# Altium schematic symbol library library.SchLib: 20 symbols
Pins are listed as number, name and electrical type; pins without a type are passive.

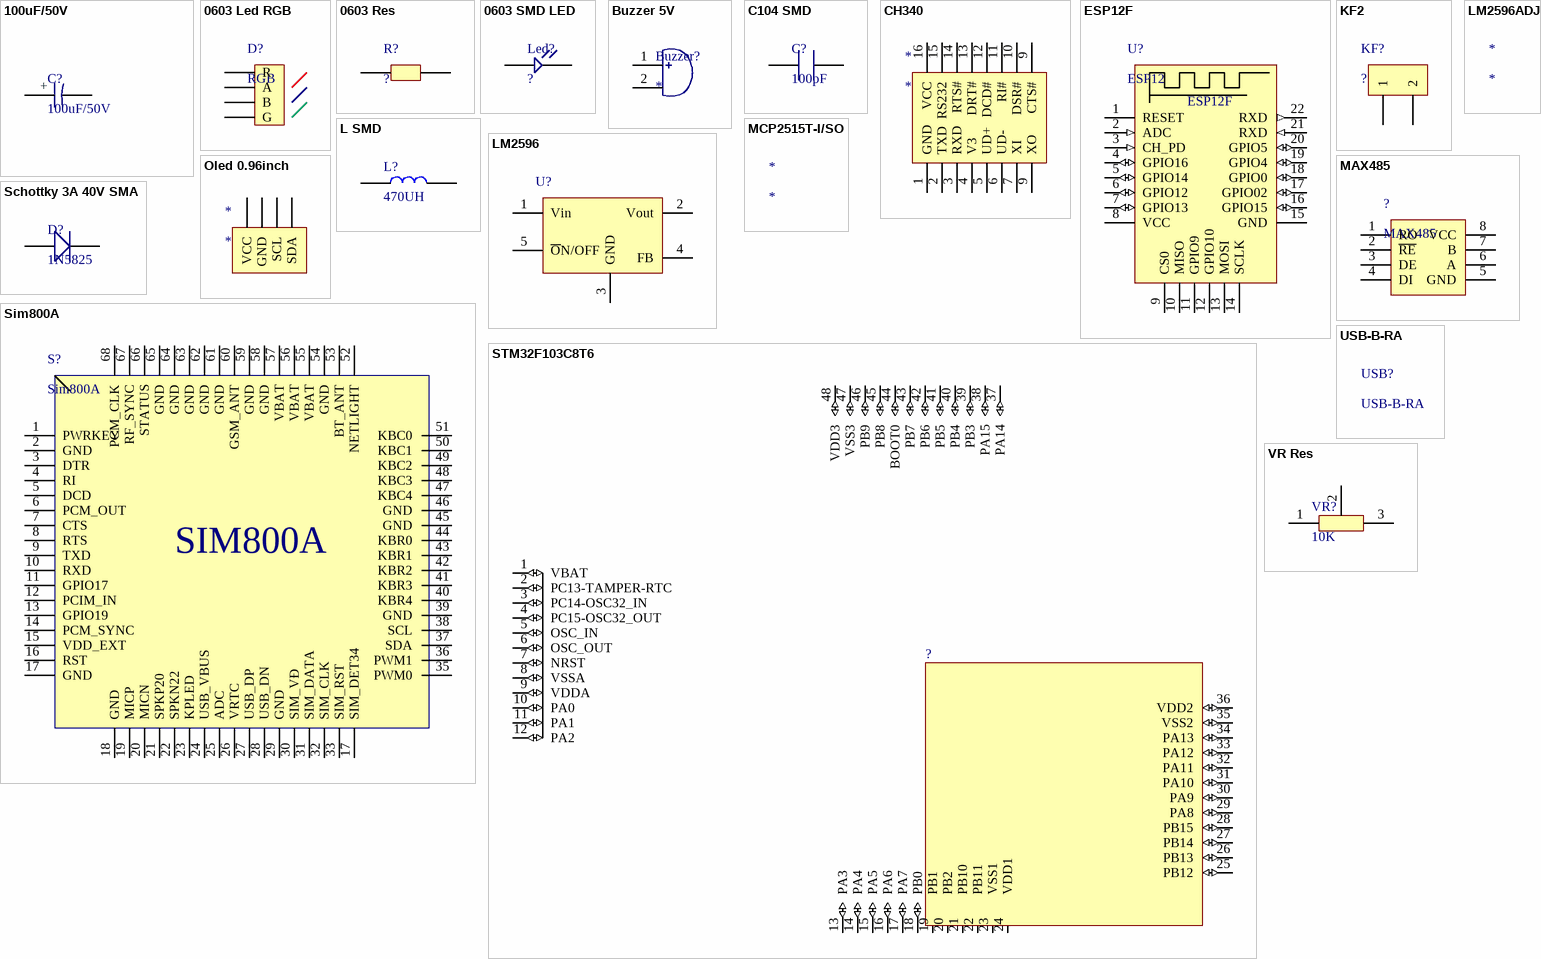
[diagram p0: symbols 100uF/50V to VR Res]

## 100uF/50V
designator C?
CAP ALUM 100UF 50V SMD; Supplier 1: Digi-Key; Supplier Part Number 1: 493-2306-1-ND
footprint UUD1H101MNL1GS
pins: 1 +, 2

## 0603 Led RGB
designator D?, comment RGB
footprint 0603 led RGB
pins: 1 R, 2 A, 3 B, 4 G

## 0603 Res
designator R?, comment ?
footprint SMD 0603 Res
pins: 1, 2

## 0603 SMD LED
designator Led?, comment ?
footprint 0603 SMD
pins: 1, 2

## Buzzer 5V
designator Buzzer?
footprint YMD-12095G
pins: 1, 2

## C104 SMD
designator C?, comment 100pF
0603 SMD CAP
footprint C104 0603 SMD
footprint C104 0603 SMD
pins: 1, 2

## CH340
designator *
Supplier 1: Digi-Key
pins: 1 GND, 2 TXD, 3 RXD, 4 V3, 5 UD+, 6 UD-, 7 XI, 9 XO, 9 CTS#, 10 DSR#, 11 RI#, 12 DCD#, 13 DRT#, 14 RTS#, 15 RS232, 16 VCC

## ESP12F
designator U?, comment ESP12
ESP12F: ESP12F
footprint Esp12
pins: 1 RESET, 2 ADC (in), 3 CH_PD (in), 4 GPIO16 (io), 5 GPIO14 (io), 6 GPIO12 (io), 7 GPIO13 (io), 8 VCC, 9 CS0, 10 MISO, 11 GPIO9, 12 GPIO10, 13 MOSI, 14 SCLK, 15 GND, 16 GPIO15 (io), 17 GPIO02 (io), 18 GPIO0 (io), 19 GPIO4 (io), 20 GPIO5 (io), 21 RXD (in), 22 RXD (out)

## KF2
designator KF?, comment ?
2P-KF126 Domino
footprint KF126
pins: 1, 2

## L SMD
designator L?, comment 470UH
470UH 0.79A, Size 12 x 12 x 8, SMD Inductor; Supplier 1: Digi-Key; Supplier Part Number 1: 595-1460-1-ND
footprint RH127-471
footprint RH127-471
footprint RH127-471
pins: 1, 2

## LM2596
designator U?, comment LM2596-ADJ  (value not drawn)
IC BUCK ADJ 3A TO263-5; Supplier 1: Digi-Key; Supplier Part Number 1: LM2596S-ADJ/NOPB-ND
footprint TO263-5
pins: 1 Vin, 2 Vout, 3 GND, 4 FB, 5 ~{O}N/OFF

## LM2596ADJ
designator *

## MAX485
designator ?
footprint MAX485
pins: 1 RO, 2 ~{RE}, 3 DE, 4 DI, 5 GND, 6 A, 7 B, 8 VCC

## MCP2515T-I/SO
designator *

## Oled 0.96inch
designator *
footprint Oled 0.96
pins: 1 VCC, 2 GND, 3 SCL, 4 SDA

## Schottky 3A 40V SMA
designator D?, comment 1N5825
DIODE SCHOTTKY 3A 40V SMA; Supplier 1: Digi-Key; Supplier Part Number 1: B340LA-FDICT-ND
footprint SS34-SMA
footprint SS34-SMA
pins: 1, 2

## Sim800A
designator S?
footprint SIM800a
pins: 1 PWRKEY, 2 GND, 3 DTR, 4 RI, 5 DCD, 6 PCM_OUT, 7 CTS, 8 RTS, 9 TXD, 10 RXD, 11 GPIO17, 12 PCIM_IN, 13 GPIO19, 14 PCM_SYNC, 15 VDD_EXT, 16 RST, 17 GND, 17 SIM_DET34, 18 GND, 19 MICP, 20 MICN, 21 SPKP20, 22 SPKN22, 23 KPLED, 24 USB_VBUS, 25 ADC, 26 VRTC, 27 USB_DP, 28 USB_DN, 29 GND, 30 SIM_VĐ, 31 SIM_DATA, 32 SIM_CLK, 33 SIM_RST, 35 PWM0, 36 PWM1, 37 SDA, 38 SCL, 39 GND, 40 KBR4, 41 KBR3, 42 KBR2, 43 KBR1, 44 KBR0, 45 GND, 46 GND, 47 KBC4, 48 KBC3, 49 KBC2, 50 KBC1, 51 KBC0, 52 NETLIGHT, 53 BT_ANT, 54 GND, 55 VBAT, 56 VBAT, 57 VBAT, 58 GND, 59 GND, 60 GSM_ANT, 61 GND, 62 GND, 63 GND, 64 GND, 65 GND, 66 STATUS, 67 RF_SYNC, 68 PCM_CLK

## STM32F103C8T6
designator ?  (value not drawn)
Mainstream Performance line, ARM Cortex-M3 MCU with 64 Kbytes Flash, 72 MHz CPU, motor control, USB and CAN; MP: STM32F103C8T6; MF: STMicroelectronics; Availability: Good; SnapEDA_Link: https://www.snapeda.com/parts/STM32F103C8T6/STMicroelectronics/view-part/?ref=snap; Price: 3.91 USD; Package: LQFP-48 STMicroelectronics; Value: *
footprint LQFP48_7X7MM_0.5MMPP
pins: 1 VBAT (io), 2 PC13-TAMPER-RTC (io), 3 PC14-OSC32_IN (io), 4 PC15-OSC32_OUT (io), 5 OSC_IN (io), 6 OSC_OUT (io), 7 NRST (io), 8 VSSA (io), 9 VDDA (io), 10 PA0 (io), 11 PA1 (io), 12 PA2 (io), 13 PA3 (io), 14 PA4 (io), 15 PA5 (io), 16 PA6 (io), 17 PA7 (io), 18 PB0 (io), 19 PB1 (io), 20 PB2 (io), 21 PB10 (io), 22 PB11 (io), 23 VSS1 (io), 24 VDD1 (io), 25 PB12 (io), 26 PB13 (io), 27 PB14 (io), 28 PB15 (io), 29 PA8 (io), 30 PA9 (io), 31 PA10 (io), 32 PA11 (io), 33 PA12 (io), 34 PA13 (io), 35 VSS2 (io), 36 VDD2 (io), 37 PA14 (io), 38 PA15 (io), 39 PB3 (io), 40 PB4 (io), 41 PB5 (io), 42 PB6 (io), 43 PB7 (io), 44 BOOT0 (io), 45 PB8 (io), 46 PB9 (io), 47 VSS3 (io), 48 VDD3 (io)

## USB-B-RA
designator USB?

## VR Res
designator VR?, comment 10K
footprint RM065-203
pins: 1, 2, 3